# Altium footprint library Conn_Sullins_PPTC101LFBN-RC_eec_0.PcbLib: 1 footprints
Each footprint in its own frame and in the unit in brackets; x right, y up, seen from the top. Pads: shape width x height; smd on the part's side, far side on the other; paste and mask are expansions set on the pad; w line width, h text height; cw(c..) or ccw(c..) is an arc to the next point about the centre after c.
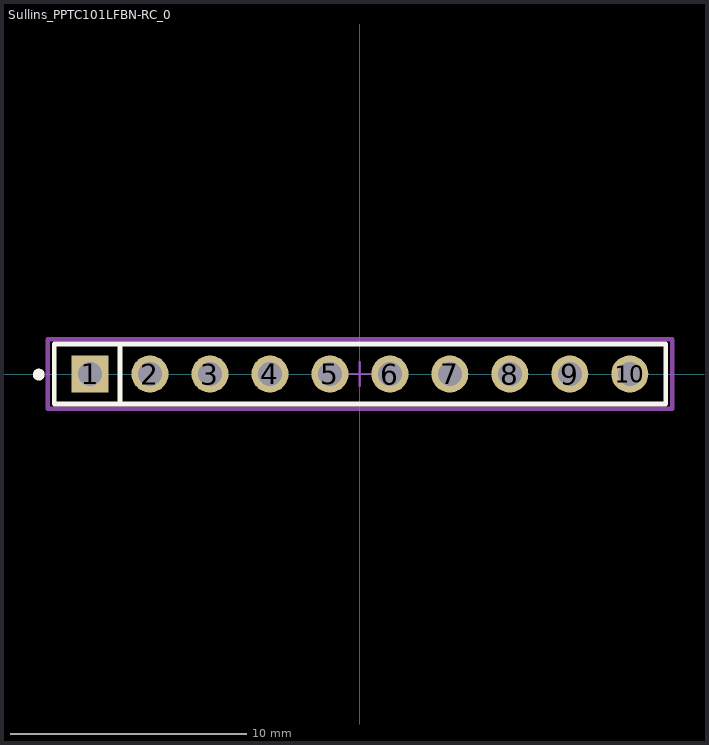
[diagram p0: the footprint, top view; thin cyan lines are the x and y axes]

## Sullins_PPTC101LFBN-RC_0 [mm]
pads (10):
  rect 1.57x1.57 hole 1.02 paste-1000 mask+0: 1(-11.43,0)
  round 1.57 hole 1.02 paste-1000 mask+0: 2(-8.89,0) 3(-6.35,0) 4(-3.81,0) 5(-1.27,0) 6(1.27,0) 7(3.81,0) 8(6.35,0) 9(8.89,0) 10(11.43,0)
Top Overlay:
  circle w0.25: c-13.6,-0.025 r0.125
  lines w0.2: -10.16,-1.27 -10.16,1.27 ; -12.95,-1.27 12.95,-1.27 12.95,1.27 -12.95,1.27 -12.95,-1.27
Mechanical 10:
  lines w0.2: -13.225,-1.47 13.225,-1.47 13.225,1.47 -13.225,1.47 -13.225,-1.47
  text ".Designator" at 0,0 h1
Mechanical 12:
  lines w0.15: -12.95,-1.27 12.95,-1.27 12.95,1.27 -12.95,1.27 -12.95,-1.27
Mechanical 15:
  lines w0.1: -0.5,0 0.5,0 ; 0,-0.5 0,0.5
  lines w0.2: -13.225,-1.47 13.225,-1.47 13.225,1.47 -13.225,1.47 -13.225,-1.47
3D body "3dmodel.step": height 0.25, standoff 0, extent -13.225,-1.47 13.225,1.47